# EAGLE library part 691325110006 (library Terminal_Blocks_Connectors_rev15e)
WR-TBL Serie 3251 - 3.5mm Horizontal PCB Header with Flanges , 6 Pins=>Code : Con_TBL_Pluggable_3.50_PCB_H_691325110006 <http://katalog.we-online.de/media/images/eican/Con_TBL_Pluggable_3.50_PCB_H_6913251100xx_pf2.jpg> Details see: http://katalog.we-online.de/en/em/691_325_110_0xx Created 2014-06-19, Karrer Zheng 2014 (C) Würth Elektronik
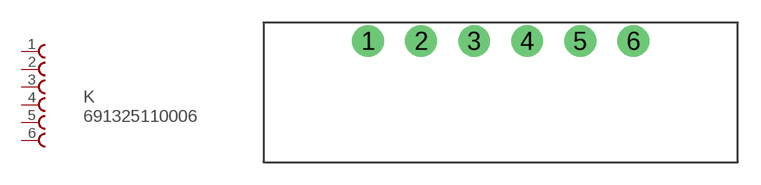
[diagram p15: symbol with the pads of 691325110006; footprint 691325110006]

Designator prefix K

## 691325110006  [691325110006]
1  1  pas
2  2  pas
3  3  pas
4  4  pas
5  5  pas
6  6  pas

## Footprint 691325110006 (pad centres in mm)
WR-TBL Serie 3251 - 3.5mm Horizontal PCB Header with Flanges , 6 Pins
drill 1.4: 1 -10.5,0; 2 -7,0; 3 -3.5,0; 4 0,0; 5 3.5,0; 6 7,0